# EAGLE library part KWL-R1025VB (library kiss_z)
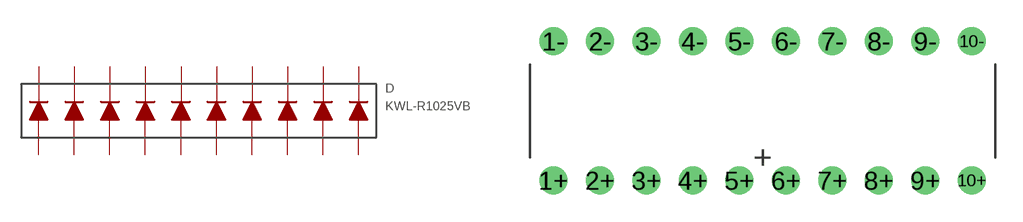
[diagram p4: symbol with the pads of KWL-R1025VB; footprint KWL-R1025VB]

Designator prefix D

## KWL-R1025VB  [KWL-R1025VB]
1+  P$1
1-  P$20
2+  P$2
2-  P$19
3+  P$3
3-  P$18
4+  P$4
4-  P$17
5+  P$5
5-  P$16
6+  P$6
6-  P$15
7+  P$7
7-  P$14
8+  P$8
8-  P$13
9+  P$9
9-  P$12
10+  P$10
10-  P$11

## Footprint KWL-R1025VB (pad centres in mm)
drill 1.016: 1+ 0,0; 1- 0,7.62; 2+ 2.54,0; 2- 2.54,7.62; 3+ 5.08,0; 3- 5.08,7.62; 4+ 7.62,0; 4- 7.62,7.62; 5+ 10.16,0; 5- 10.16,7.62; 6+ 12.7,0; 6- 12.7,7.62; 7+ 15.24,0; 7- 15.24,7.62; 8+ 17.78,0; 8- 17.78,7.62; 9+ 20.32,0; 9- 20.32,7.62; 10+ 22.86,0; 10- 22.86,7.62